# EAGLE library part MICRO_SD_CARD (library parts-for-kicad)
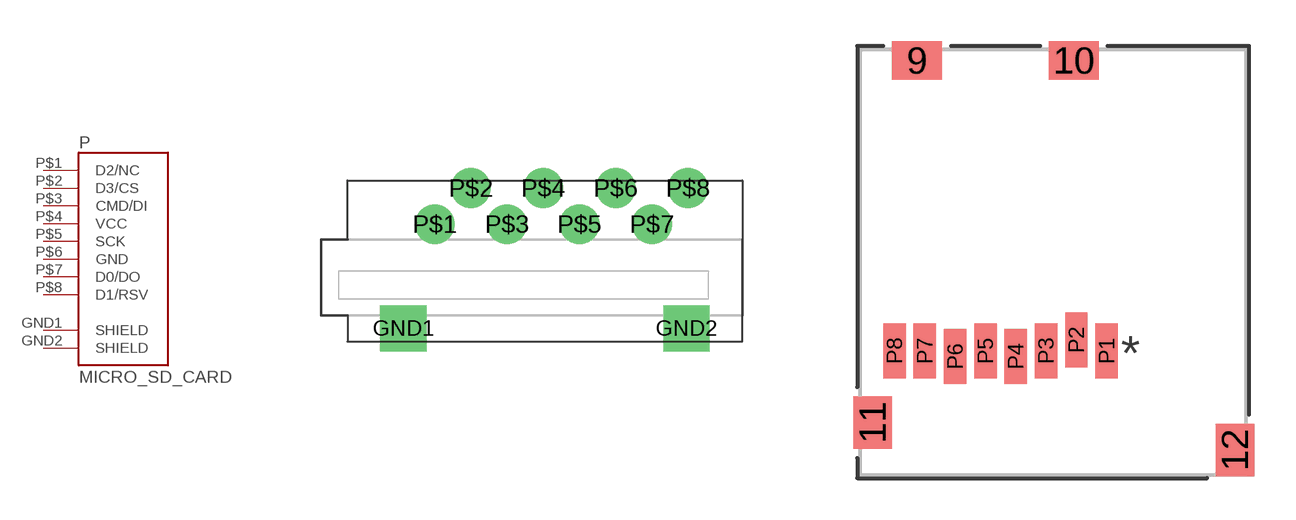
[diagram p2: symbol with the pads of VERT_MICROSD_CENTERED; footprints VERT_MICROSD_CENTERED, MEM2061-01-188-00-A_GCT]

Designator prefix P

## MICRO_SD_CARDCENTERED  [VERT_MICROSD_CENTERED]
GND1  SHIELD
GND2  SHIELD
P$1  D2/NC
P$2  D3/CS
P$3  CMD/DI
P$4  VCC
P$5  SCK
P$6  GND
P$7  D0/DO
P$8  D1/RSV

## MICRO_SD_CARD  [MEM2061-01-188-00-A_GCT]
11  SHIELD
12  SHIELD
P1  D2/NC
P2  D3/CS
P3  CMD/DI
P4  VCC
P5  SCK
P6  GND
P7  D0/DO
P8  D1/RSV

## Footprint VERT_MICROSD_CENTERED (pad centres in mm)
drill 0.9 square: GND1 -3.9,-1.55; GND2 4.7,-1.55
drill 0.7: P$1 -2.95,1.62; P$2 -1.85,2.72; P$3 -0.75,1.62; P$4 0.35,2.72; P$5 1.45,1.62; P$6 2.55,2.72; P$7 3.65,1.62; P$8 4.75,2.72

## Footprint MEM2061-01-188-00-A_GCT (pad centres in mm)
smd 1.803 x 1.397: 9 -4.95,7.322; 10 0.75,7.322
smd 1.397 x 1.905: 11 -6.55,-5.828; 12 6.6,-6.828
smd 0.813 x 2.007: P1 1.94,-3.228; P2 0.84,-2.828; P3 -0.26,-3.228; P4 -1.36,-3.428; P5 -2.46,-3.228; P6 -3.56,-3.428; P7 -4.66,-3.228; P8 -5.76,-3.228